# EAGLE library part 74AHC244BQ,115 (library pimoroni-ics)
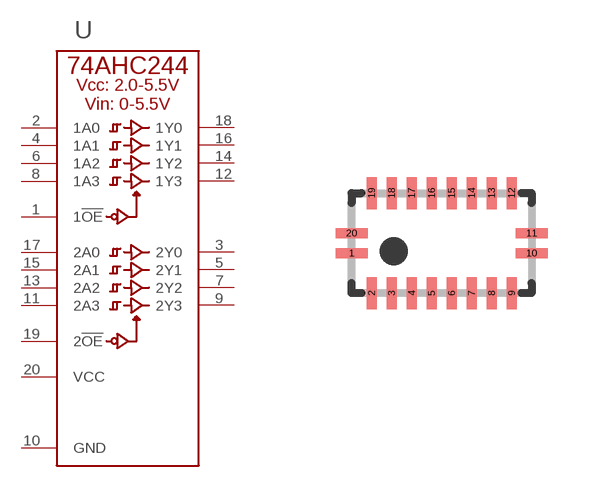
[diagram p146: symbol with the pads of DHVQFN20_SOT764-1; footprint DHVQFN20_SOT764-1]

Designator prefix U

## 74AHC244BQ,115  [DHVQFN20_SOT764-1]
1  1!OE
2  1A0
3  2Y0
4  1A1
5  2Y1
6  1A2
7  2Y2
8  1A3
9  2Y3
10  GND
11  2A3
12  1Y3
13  2A2
14  1Y2
15  2A1
16  1Y1
17  2A0
18  1Y0
19  2!OE
20  VCC

## Footprint DHVQFN20_SOT764-1 (pad centres in mm)
smd 0.8 x 0.25: 1 -2.25,-0.25; 10 2.25,-0.25; 11 2.25,0.25; 20 -2.25,0.25
smd 0.25 x 0.8: 2 -1.75,-1.25; 3 -1.25,-1.25; 4 -0.75,-1.25; 5 -0.25,-1.25; 6 0.25,-1.25; 7 0.75,-1.25; 8 1.25,-1.25; 9 1.75,-1.25; 12 1.75,1.25; 13 1.25,1.25; 14 0.75,1.25; 15 0.25,1.25; 16 -0.25,1.25; 17 -0.75,1.25; 18 -1.25,1.25; 19 -1.75,1.25